# Altium schematic symbol library Pot.SchLib: 7 symbols
Pins are listed as number, name and electrical type; pins without a type are passive.

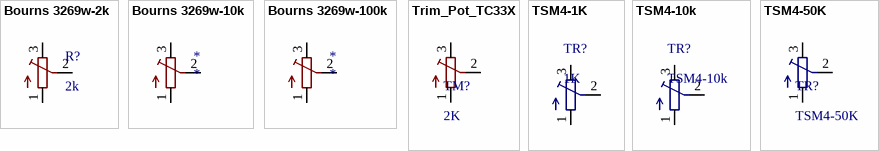
[diagram p0: symbols Bourns 3269w-2k to TSM4-50K]

## Bourns 3269w-2k
designator R?, comment 2k
3269W-1-202LF -  Trimpot, Multi Turn, Cermet, Top Adjust, 2 kohm, Surface Mount, 12 Turns; Supplier 1: Digi-Key; Supplier 2: Farnell; Supplier 3: Farnell; Supplier 4: RSComponents; Supplier 5: RSComponents; Supplier Part Number 1: 3269W-1-202LF-ND; Supplier Part Number 2: 9352988; Supplier Part Number 3: 2519988; Supplier Part Number 4: 6912577P; Supplier Part Number 5: 6912577
footprint 3269w (3269w pot)
pins: 1, 2, 3

## Bourns 3269w-10k
designator *
10 surface mount pot verticle adjust; Supplier 1: Farnell; Supplier Part Number 1: 9352961
footprint 3269w (3269w pot)
pins: 1 A, 2 S, 3 E

## Bourns 3269w-100k
designator *
Supplier 1: Farnell; Supplier Part Number 1: 9352970
footprint 3269w (3269w pot)
pins: 1 A, 2 S, 3 E

## Trim_Pot_TC33X
designator TM?, comment 2K
2K, SMD, Trim Pot, 1 Turn; Supplier 1: Farnell; Supplier Part Number 1: 2328510
footprint TC33X_SMD (SMD Trim Pot)
pins: 1 A, 2 S, 3 E

## TSM4-1K
designator TR?, comment 1K
1k, 13 turn, TSM4YJ102KR05; Supplier 1: Farnell; Supplier Part Number 1: 1141345
footprint TSM4
pins: 1 A, 2 S, 3 E

## TSM4-10k
designator TR?
10K, 13 turn pot; Supplier 1: Farnell; Supplier Part Number 1: 1141362
footprint TSM4
pins: 1 A, 2 S, 3 E

## TSM4-50K
designator TR?
50K, 13 turn, TSM4YK503KR05; Supplier 1: Farnell; Supplier Part Number 1: 1141350
footprint TSM4
pins: 1 A, 2 S, 3 E